# EAGLE library part SLV6A-FKB-CK1P1G1BB7R3R3 (library 445-eagle-lib)
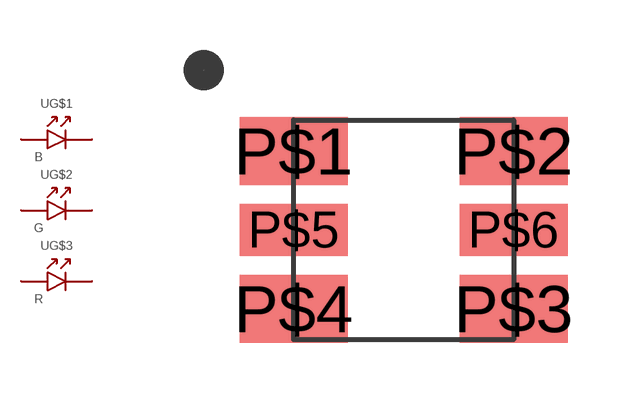
[diagram p6: symbol with the pads of SLV6A-FKB-CK1P1G1BB7R3R3; footprint SLV6A-FKB-CK1P1G1BB7R3R3]

Designator prefix -; gates G$1=LED-B G$2=LED-G G$3=LED-R

## SLV6A-FKB-CK1P1G1BB7R3R3  [SLV6A-FKB-CK1P1G1BB7R3R3]
P$1  G$1:B-
P$2  G$2:G-
P$3  G$3:R-
P$4  G$3:R+
P$5  G$2:G+
P$6  G$1:B+

## Footprint SLV6A-FKB-CK1P1G1BB7R3R3 (pad centres in mm)
RGB LED SLV6A-FKB-CK1P1G1BB7R3R3
smd 2.7 x 1.7: P$1 -2.75,1.975; P$2 2.75,1.975; P$3 2.75,-1.975; P$4 -2.75,-1.975
smd 2.7 x 1.3: P$5 -2.75,0; P$6 2.75,0